# EAGLE library part DEGSON_8 (library Simplex-Connectors)
DG58C-B-08P-13 Degson Electronics 8 pole screw terminal 10mm grid
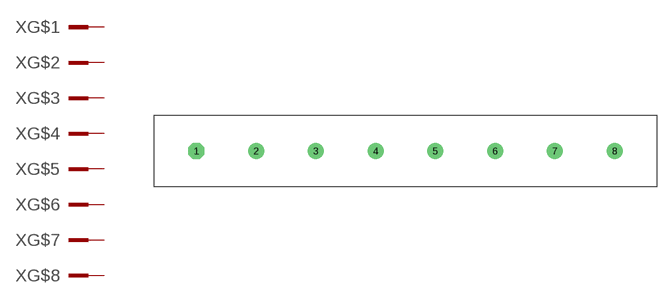
[diagram p4: symbol with the pads of DEGSON_8; footprint DEGSON_8]

Designator prefix X; gates G$1=PIN G$2=PIN G$3=PIN G$4=PIN G$5=PIN G$6=PIN G$7=PIN G$8=PIN

## DEGSON_8  [DEGSON_8]
1  G$1:KL  pas
2  G$2:KL  pas
3  G$3:KL  pas
4  G$4:KL  pas
5  G$5:KL  pas
6  G$6:KL  pas
7  G$7:KL  pas
8  G$8:KL  pas

## Footprint DEGSON_8 (pad centres in mm)
DG58C-B-08P-13 Degson Electronics 8 pole screw terminal 10mm grid
drill 1.8 octagon: 1 -35,0
drill 1.8: 2 -25,0; 3 -15,0; 4 -5,0; 5 5,0; 6 15,0; 7 25,0; 8 35,0